# EAGLE library part ATMEGA32U4 (library ERNW_parts)
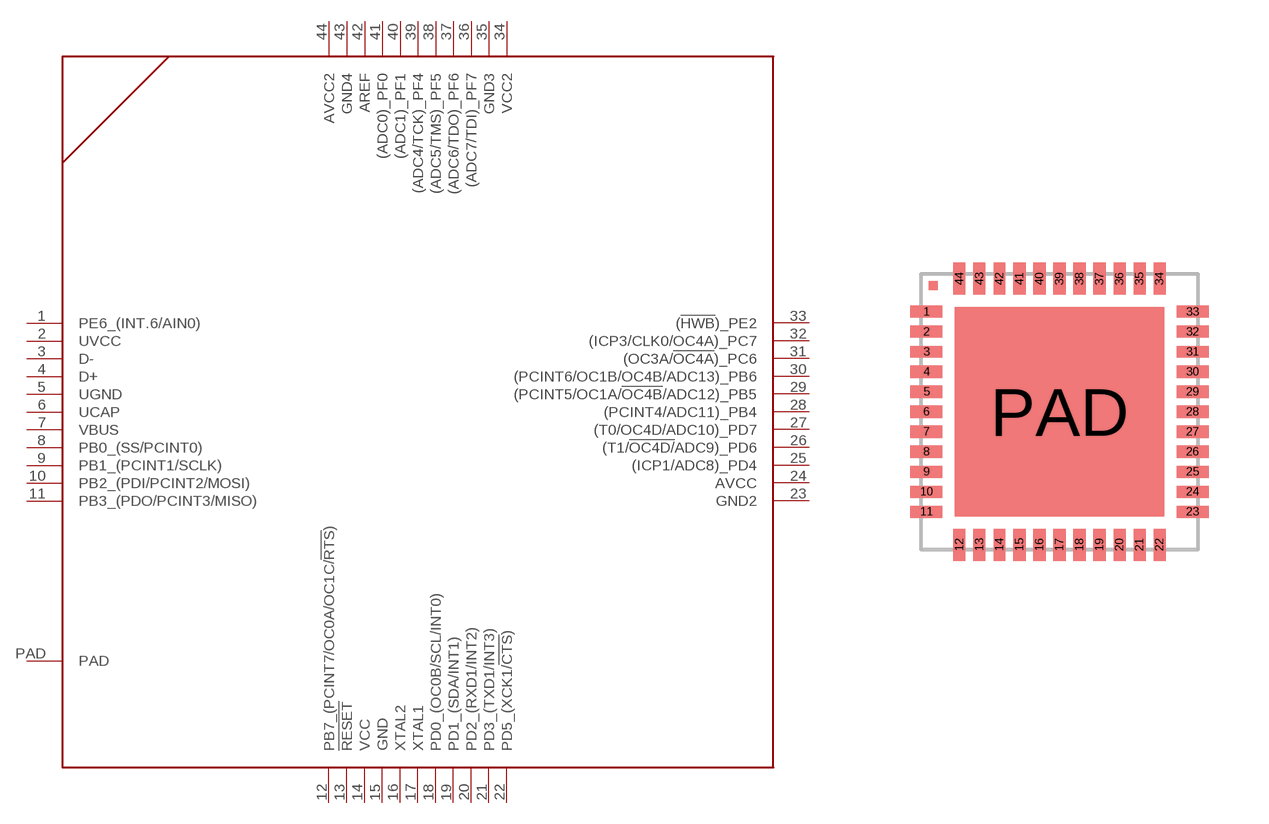
[diagram p6: symbol with the pads of QFN-44-7X7; footprint QFN-44-7X7]

Designator prefix -

## ATMEGA32U4  [QFN-44-7X7]
1  PE6_(INT.6/AIN0)
2  UVCC
3  D-
4  D+
5  UGND
6  UCAP
7  VBUS
8  PB0_(SS/PCINT0)
9  PB1_(PCINT1/SCLK)
10  PB2_(PDI/PCINT2/MOSI)
11  PB3_(PDO/PCINT3/MISO)
12  PB7_(PCINT7/OC0A/OC1C/!RTS!)
13  !RESET
14  VCC
15  GND
16  XTAL2
17  XTAL1
18  PD0_(OC0B/SCL/INT0)
19  PD1_(SDA/INT1)
20  PD2_(RXD1/INT2)
21  PD3_(TXD1/INT3)
22  PD5_(XCK1/!CTS!)
23  GND2
24  AVCC
25  (ICP1/ADC8)_PD4
26  (T1/!OC4D/!ADC9)_PD6
27  (T0/OC4D/ADC10)_PD7
28  (PCINT4/ADC11)_PB4
29  (PCINT5/OC1A/!OC4B!/ADC12)_PB5
30  (PCINT6/OC1B/OC4B/ADC13)_PB6
31  (OC3A/!OC4A!)_PC6
32  (ICP3/CLK0/OC4A)_PC7
33  (!HWB!)_PE2
34  VCC2
35  GND3
36  (ADC7/TDI)_PF7
37  (ADC6/TDO)_PF6
38  (ADC5/TMS)_PF5
39  (ADC4/TCK)_PF4
40  (ADC1)_PF1
41  (ADC0)_PF0
42  AREF
43  GND4
44  AVCC2
PAD  PAD

## Footprint QFN-44-7X7 (pad centres in mm)
QFN-44 (7x7x1.8mm) Source: http://www.st.com/stonline/products/literature/ds/11020.pdf
smd 0.8 x 0.3: 1 -3.325,2.5; 2 -3.325,2; 3 -3.325,1.5; 4 -3.325,1; 5 -3.325,0.5; 6 -3.325,0; 7 -3.325,-0.5; 8 -3.325,-1; 9 -3.325,-1.5; 10 -3.325,-2; 11 -3.325,-2.5; 23 3.325,-2.5; 24 3.325,-2; 25 3.325,-1.5; 26 3.325,-1; 27 3.325,-0.5; 28 3.325,0; 29 3.325,0.5; 30 3.325,1; 31 3.325,1.5; 32 3.325,2; 33 3.325,2.5
smd 0.3 x 0.8: 12 -2.5,-3.325; 13 -2,-3.325; 14 -1.5,-3.325; 15 -1,-3.325; 16 -0.5,-3.325; 17 0,-3.325; 18 0.5,-3.325; 19 1,-3.325; 20 1.5,-3.325; 21 2,-3.325; 22 2.5,-3.325; 34 2.5,3.325; 35 2,3.325; 36 1.5,3.325; 37 1,3.325; 38 0.5,3.325; 39 0,3.325; 40 -0.5,3.325; 41 -1,3.325; 42 -1.5,3.325; 43 -2,3.325; 44 -2.5,3.325
smd 5.24 x 5.24: PAD 0,0